# EAGLE library part COSMICANALOGUE_AD8039 (library Cosmic Pi V2)
2.7 V, 800 ?A, 80 MHz Rail-to-Rail I/O Amplifiers Source: http://www.analog.com/static/imported-files/data_sheets/AD8031_8032.pdf
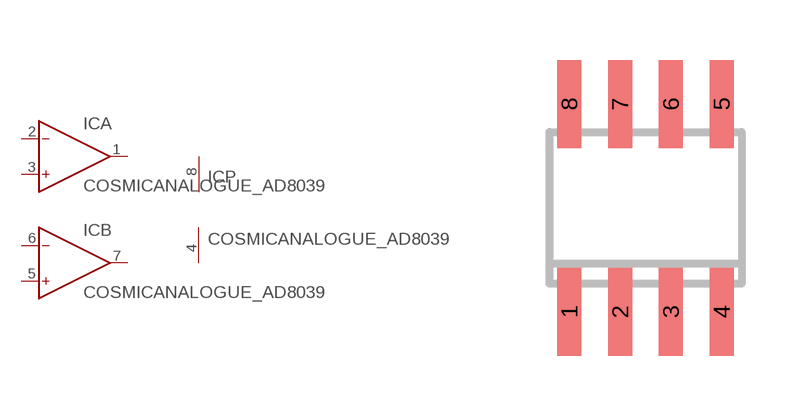
[diagram p10: symbol with the pads of COSMICANALOGUE_SO8; footprint COSMICANALOGUE_SO8]

Designator prefix IC; gates A=COSMICANALOGUE_OP B=COSMICANALOGUE_OP P=COSMICANALOGUE_PWR+-

## COSMICANALOGUE_AD8039R (MF: ALTERA CORPORATION; MPN: AD8033ARZ; OC_FARNELL: 8621519; OC_NEWARK: 59K6245)  [COSMICANALOGUE_SO8]
1  A:OUT  out
2  A:IN-  in
3  A:IN+  in
4  P:V-  pwr
5  B:IN+  in
6  B:IN-  in
7  B:OUT  out
8  P:V+  pwr

## Footprint COSMICANALOGUE_SO8 (pad centres in mm)
8-Lead Small Outline IC (SO-8) Source: http://www.analog.com/UploadedFiles/Data_Sheets/703465986AD8611_2_0.pdf
smd 0.6 x 2.2: 1 -1.905,-2.6; 2 -0.635,-2.6; 3 0.635,-2.6; 4 1.905,-2.6; 5 1.905,2.6; 6 0.635,2.6; 7 -0.635,2.6; 8 -1.905,2.6